# EAGLE library part SENSIRION_SGP40 (library FlashPCB_Sensors)
SGP40 - Indoor Air Quality Sensor for VOC Measurements Technical Specifications: Output: I²C Operating Temperature: -10°C ~ 50°C Voltage - Supply: 1.7V ~ 3.6V Current - Supply: 4mA Component Search: [DATA SHEET NAME] <[FLASHPCB URL]> Datasheet: SGP40 <https://sensirion.com/media/documents/296373BB/6203C5DF/Sensirion_Gas_Sensors_Datasheet_SGP40.pdf>
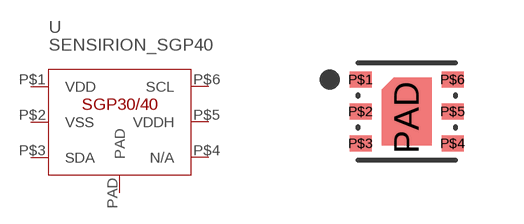
[diagram p21: symbol with the pads of SENSIRION_SGP40; footprint SENSIRION_SGP40]

Designator prefix U

## SENSIRION_SGP40  [SENSIRION_SGP40]
P$1  VDD
P$2  VSS
P$3  SDA
P$4  N/A
P$5  VDDH
P$6  SCL
PAD  PAD

## Footprint SENSIRION_SGP40 (pad centres in mm)
smd 0.55 x 0.4: P$1 -1.15,0.8; P$2 -1.15,0; P$3 -1.15,-0.8; P$4 1.15,-0.8; P$5 1.15,0; P$6 1.15,0.8
smd 1.25 x 1.4: PAD 0,-0.15